# Altium integrated library FE310_Badge.IntLib: 55 symbols
Pins are listed as number, name and electrical type; pins without a type are passive.

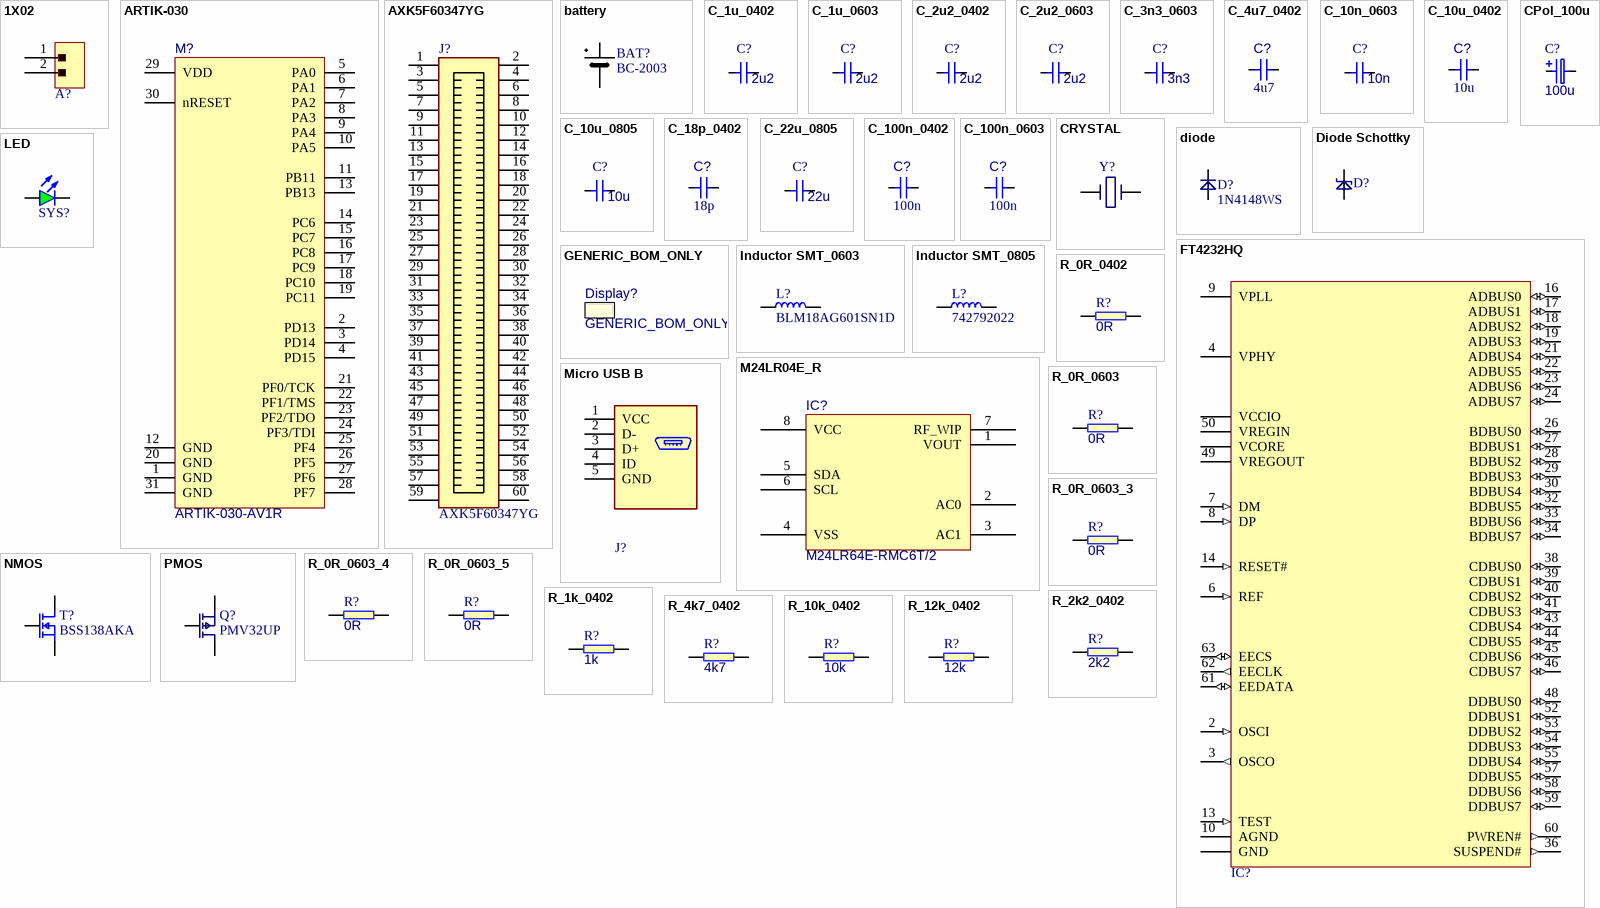
[diagram p0: symbols 1X02 to R_12k_0402]

## 1X02
designator A?, comment 811-22-002-30-001101  (value not drawn)
Headers & Wire Housings 2P SINGLE ROW HDR .177" PIN HEIGHT; Manufacturer: MILL_MAX; Part Number: 811-22-002-30-001101; Value: 811-22-002-30-001101; Part Symbol: 811-22-002-30-001101
footprint 812-22-002-30-003101
pins: 1, 2

## ARTIK-030
designator M?, comment ARTIK-030-AV1R
Manufacturer: Samsung; Part Number: ARTIK-030; Part Symbol: ARTIK-030-AV1R; Value: ARTIK-030-AV1R
footprint ARTIK-030
pins: 1 GND, 2 PD13, 3 PD14, 4 PD15, 5 PA0, 6 PA1, 7 PA2, 8 PA3, 9 PA4, 10 PA5, 11 PB11, 12 GND, 13 PB13, 14 PC6, 15 PC7, 16 PC8, 17 PC9, 18 PC10, 19 PC11, 20 GND, 21 PF0/TCK, 22 PF1/TMS, 23 PF2/TDO, 24 PF3/TDI, 25 PF4, 26 PF5, 27 PF6, 28 PF7, 29 VDD, 30 nRESET, 31 GND

## AXK5F60347YG
designator J?
CONN SCKT BRD/BRD .5MM 60POS SMD; Manufacturer: PANASONIC; Part Number: AXK5F60347YG; Value: AXK5F60347YG; Part Symbol: AXK5F60347YG
footprint AXK5F60347YG
pins: 1, 2, 3, 4, 5, 6, 7, 8, 9, 10, 11, 12, 13, 14, 15, 16, 17, 18, 19, 20, 21, 22, 23, 24, 25, 26, 27, 28, 29, 30, 31, 32, 33, 34, 35, 36, 37, 38, 39, 40, 41, 42, 43, 44, 45, 46, 47, 48, 49, 50, 51, 52, 53, 54, 55, 56, 57, 58, 59, 60

## battery
designator BAT?, comment BC-2003
SMT holder for  CR2032 battery; Manufacturer: Keystone; Part Number: BC-2003; Value: BC-2003; Part Symbol: BC-2003
footprint BC-2003
pins: +, -

## C_1u_0402
designator C?, comment 2u2
MLCC SMT Capacitor 1u 0402; Part Number: C_2u2_0603; Manufacturer: MURATA; Part Symbol: GRM155R61C105KA12D; Value: 2u2
footprint 0402
pins: 1, 2
1 alternate drawing of the same symbol

## C_1u_0603
designator C?, comment 2u2
MLCC SMT Capacitor 1u 0603; Part Number: C_2u2_0603; Manufacturer: MURATA; Part Symbol: GRM155R61C105KA12D; Value: 2u2
footprint 0603
pins: 1, 2
1 alternate drawing of the same symbol

## C_2u2_0402
designator C?, comment 2u2
MLCC SMT Capacitor 2u2 0402; Part Number: C_2u2_0402; Manufacturer: TDK; Part Symbol: C1005X5R1A225K050BC; Value: 2u2
footprint 0402
pins: 1, 2
1 alternate drawing of the same symbol

## C_2u2_0603
designator C?, comment 2u2
MLCC SMT Capacitor 2u2 0603; Part Number: C_2u2_0603; Manufacturer: TDK; Part Symbol: C1608X5R1V225K080AC; Value: 2u2
footprint 0603
pins: 1, 2
1 alternate drawing of the same symbol

## C_3n3_0603
designator C?, comment 3n3
MLCC SMT Capacitor 3n3 0603; Part Number: C_3n3_0603; Manufacturer: WALSIN; Part Symbol: 0603B332J500CT; Value: 3n3
footprint 0603
pins: 1, 2
1 alternate drawing of the same symbol

## C_4u7_0402
designator C?, comment 4u7
MLCC SMT Capacitor 4u7 0402; Part Number: C_4u7_0402; Manufacturer: MURATA; Part Symbol: GRM155R60G475ME; Value: 4u7
footprint 0402
pins: 1, 2
1 alternate drawing of the same symbol

## C_10n_0603
designator C?, comment 10n
MLCC SMT Capacitor 10n 0603; Part Number: C_10n_0603; Manufacturer: AVX; Part Symbol: 06031C103JAT2A; Value: 10n
footprint 0603
pins: 1, 2
1 alternate drawing of the same symbol

## C_10u_0402
designator C?, comment 10u
MLCC SMT Capacitor 10uF 0402; Part Number: C_10u_0402; Manufacturer: TDK; Part Symbol: C1005X5R0J106M050BC; Value: 10u
footprint 0402
pins: 1, 2
1 alternate drawing of the same symbol

## C_10u_0805
designator C?, comment 10u
MLCC SMT Capacitor 10u 0805; Part Number: C_10u_0805; Manufacturer: WALSIN; Part Symbol: 0805F106Z100CT; Value: 10u
footprint 0805
pins: 1, 2
1 alternate drawing of the same symbol

## C_18p_0402
designator C?, comment 18p
MLCC SMT Capacitor 18pF 0402; Part Number: C_18p_0402; Manufacturer: KEMET; Part Symbol: C0402C180J5GACAUTO; Value: 18p
footprint 0402
pins: 1, 2
1 alternate drawing of the same symbol

## C_22u_0805
designator C?, comment 22u
MLCC SMT Capacitor 22u 0805; Part Number: C_22u_0805; Manufacturer: MULTICOMP; Part Symbol: MC0805X226M6R3CT; Value: 22u
footprint 0805
pins: 1, 2
1 alternate drawing of the same symbol

## C_100n_0402
designator C?, comment 100n
MLCC SMT Capacitor 100nF 0402; Part Number: C_100n_0402; Manufacturer: MULTICOMP; Part Symbol: MC0402X104M100CT; Value: 100n
footprint 0402
pins: 1, 2
1 alternate drawing of the same symbol

## C_100n_0603
designator C?, comment 100n
MLCC SMT Capacitor 100nF 0603; Part Number: C_100n_0603; Manufacturer: WALSIN; Part Symbol: 0603B104K500CT; Value: 100n
footprint 0603
pins: 1, 2
1 alternate drawing of the same symbol

## CPol_100u
designator C?, comment 100u
Tantalum SMT Capacitor 100uF Case KEMET_A; Part Number: C_100u_KEMET_A; Manufacturer: VISHAY; Part Symbol: 298D107X06R3A2T; Value: 100u
footprint KEMET_A
pins: 1, 2
1 alternate drawing of the same symbol

## CRYSTAL
designator Y?, comment ABRACON - ABM7-12.000MHZ-D2Y-T - CRYSTAL, 12MHZ, 18PF, SMD  (value not drawn)
CRYSTAL, 12MHZ, 18PF, SMD; Part Number: CRYSTAL_12MHz_SMD_6.0x3.5mm; Manufacturer: ABRACON; Part Symbol: ABM7-12.000MHZ-D2Y-T
footprint abm7
pins: 1, 2

## diode
designator D?, comment 1N4148WS
Diode small signal; Manufacturer: MULTICOMP; Part Number: 1N4148WS; Value: 1N4148WS; Part Symbol: 1N4148WS
footprint SOD-323
pins: A, C

## Diode Schottky
designator D?
DIODE, SCHOTTKY, 1A, 40V, DO-214AA; Part Number: MBRS140T3G; Manufacturer: ON SEMICONDUCTOR; Part Symbol: MBRS140T3G
footprint SMB
pins: A, C

## FT4232HQ
designator IC?  (value not drawn)
FTDI  FT4232HQ-R  Interface Bridges, USB to UART, MPSSE, 1.62 V, 1.98 V, QFN, 64 Pins, -40 °C; Part Number: FT4232HQ; Value: FT4232HQ; Manufacturer: FTDI; Part Symbol: FT4232HQ-R
footprint FT2232HQ
pins: 2 OSCI (in), 3 OSCO (out), 4 VPHY (power), 6 REF (in), 7 DM (in), 8 DP (in), 9 VPLL (power), 10 AGND (power), 13 TEST (in), 14 RESET# (in), 16 ADBUS0 (io), 17 ADBUS1 (io), 18 ADBUS2 (io), 19 ADBUS3 (io), 21 ADBUS4 (io), 22 ADBUS5 (io), 23 ADBUS6 (io), 24 ADBUS7 (io), 26 BDBUS0 (io), 27 BDBUS1 (io), 28 BDBUS2 (io), 29 BDBUS3 (io), 30 BDBUS4 (io), 32 BDBUS5 (io), 33 BDBUS6 (io), 34 BDBUS7 (io), 36 SUSPEND# (out), 38 CDBUS0 (io), 39 CDBUS1 (io), 40 CDBUS2 (io), 41 CDBUS3 (io), 43 CDBUS4 (io), 44 CDBUS5 (io), 45 CDBUS6 (io), 46 CDBUS7 (io), 48 DDBUS0 (io), 49 VREGOUT (power), 50 VREGIN (power), 52 DDBUS1 (io), 53 DDBUS2 (io), 54 DDBUS3 (io), 55 DDBUS4 (io), 57 DDBUS5 (io), 58 DDBUS6 (io), 59 DDBUS7 (io), 60 PWREN# (out), 61 EEDATA (io), 62 EECLK (out), 63 EECS (io), GND (power), VCCIO (power), VCORE (power)

## GENERIC_BOM_ONLY
designator Display?  (mechanical)
BOM Only; Manufacturer: Pervasive Displays; Value: EG020BS011; Part Number: GENERIC_BOM_ONLY; Part Symbol: EG020BS011

## Inductor SMT_0603
designator L?, comment BLM18AG601SN1D
Ferrite Bead, 600 ohm, 0603 [1608 Metric], BLM18A Series, 500 mA, 0.38 ohm, ± 25%; Manufacturer: MURATA; Part Number: BLM18AG601SN1D; Value: BLM18AG601SN1D; Part Symbol: BLM18AG601SN1D
footprint 0603
pins: 1, 2

## Inductor SMT_0805
designator L?, comment 742792022
WURTH ELEKTRONIK - 742792022 - FERRITE BEAD, 0.05OHM, 2A, 0805; Part Number: 742792022; Value: 742792022; Manufacturer: WURTH ELEKTRONIK; Part Symbol: 742792022
footprint 0805
pins: 1, 2

## LED
designator SYS?, comment KPT-1608SGC  (value not drawn)
LED Green 0603 case; Part Number: LED_G; Manufacturer: KINGBRIGHT; Value: KPT-1608SGC; Part Symbol: KPT-1608SGC
footprint LED0603
pins: A, K

## M24LR04E_R
designator IC?, comment M24LR64E-RMC6T/2
RFID Transponder IC 13.56MHz ISO 14443, NFC I²C 2.7 V ~ 5.5 V 8-UFDFN Exposed Pad; Manufacturer: STMicroelectronics; Part Number: M24LR64E-RMC6T/2; Value: M24LR64E-RMC6T/2; Part Symbol: M24LR64E-RMC6T/2
footprint UFDFPN-8
pins: 1 VOUT, 2 AC0, 3 AC1, 4 VSS, 5 SDA, 6 SCL, 7 RF_WIP, 8 VCC

## Micro USB B
designator J?, comment Molex 47346-0001  (value not drawn)
USB - micro B Receptacle Connector 5 Position Surface Mount, Right Angle, Horizontal; Part Number: CON-Molex-47346-0001; Part Symbol: 473460001; Value: Molex 47346-0001; Manufacturer: Molex
footprint CON-Molex-047346-0001
pins: 1 VCC (power), 2 D-, 3 D+, 4 ID, 5 GND (power)

## NMOS
designator T?, comment BSS138AKA
MOSFET, N CH, 60V, 0.2A; Part Number: BSS138; Manufacturer: NXP; Value: BSS138AKA; Part Symbol: BSS138AKA
footprint SOT-23 (SOT23, 3-Leads, Body 2.90x2.45mm, Pitch 0.95mm, IPC Medium Density)
pins: 1 G, 2 S, 3 D

## PMOS
designator Q?, comment PMV32UP
P CH, 20V, 4A; Manufacturer: NXP; Part Number: PMV32UP; Value: PMV32UP; Part Symbol: PMV32UP
footprint SOT-23
pins: 1 G, 2 S, 3 D

## R_0R_0402
designator R?, comment 0R
RES, 0R, 0402; Part Number: R_0R_0402; Manufacturer: MULTICOMP; Part Symbol: MCMR04X000 PTL; Value: 0R
footprint 0402
pins: 1, 2

## R_0R_0603
designator R?, comment 0R
RES, 0R, 0603; Part Number: R_0R_0603; Manufacturer: BOURNS; Part Symbol: CR0603-J/-000ELF; Value: 0R
footprint 0603
pins: 1, 2

## R_0R_0603_3
designator R?, comment 0R
RES, 0R, 0603; Part Number: R_0R_0603; Manufacturer: BOURNS; Part Symbol: CR0603-J/-000ELF; Value: 0R
footprint 0603
pins: 1, 2

## R_0R_0603_4
designator R?, comment 0R
RES, 0R, 0603; Part Number: R_0R_0603; Manufacturer: BOURNS; Part Symbol: CR0603-J/-000ELF; Value: 0R
footprint 0603
pins: 1, 2

## R_0R_0603_5
designator R?, comment 0R
RES, 0R, 0603; Part Number: R_0R_0603; Manufacturer: BOURNS; Part Symbol: CR0603-J/-000ELF; Value: 0R
footprint 0603
pins: 1, 2

## R_1k_0402
designator R?, comment 1k
RES, 1k, 0402; Part Number: R_1k_0402; Manufacturer: MULTICOMP; Part Symbol: MCMR04X1001FTL; Value: 1k
footprint 0402
pins: 1, 2

## R_2k2_0402
designator R?, comment 2k2
RES, 2k2, 0402; Part Number: R_2k2_0402; Manufacturer: MULTICOMP; Part Symbol: MCWR04X2201FTL; Value: 2k2
footprint 0402
pins: 1, 2

## R_4k7_0402
designator R?, comment 4k7
RES, 4k7, 0402; Part Number: R_4k7_0402; Manufacturer: PANASONIC; Part Symbol: ERJ2GEJ472X; Value: 4k7
footprint 0402
pins: 1, 2

## R_10k_0402
designator R?, comment 10k
RES, 10k, 0402; Part Number: R_10k_0402; Manufacturer: MULTICOMP; Part Symbol: MCMR04X1002FTL; Value: 10k
footprint 0402
pins: 1, 2

## R_12k_0402
designator R?, comment 12k
RES, 12k 0402; Part Number: R_12k_0402; Manufacturer: VISHAY; Part Symbol: CRCW040212K0FKEDHP; Value: 12k
footprint 0402
pins: 1, 2

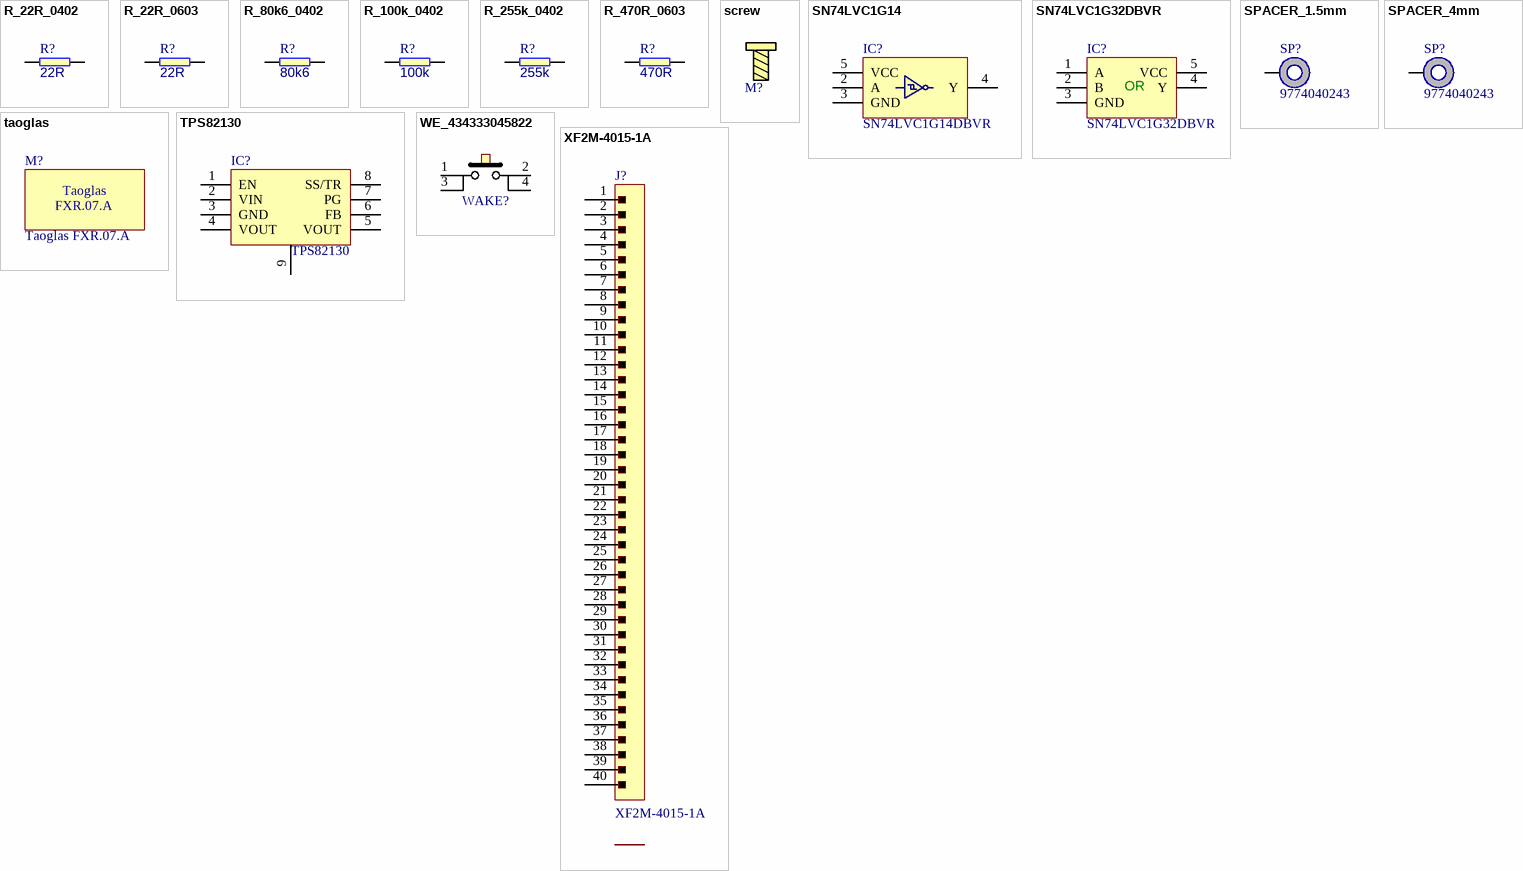
[diagram p1: symbols R_22R_0402 to XF2M-4015-1A]

## R_22R_0402
designator R?, comment 22R
RES, 22R, 0402; Part Number: R_22r_0402; Manufacturer: VISHAY; Part Symbol: CRCW040222R0FKED; Value: 22R
footprint 0402
pins: 1, 2

## R_22R_0603
designator R?, comment 22R
RES, 22R, 0603; Part Number: R_22R_0603; Manufacturer: BOURNS; Part Symbol: CR0603-JW-220GLF; Value: 22R
footprint 0603
pins: 1, 2

## R_80k6_0402
designator R?, comment 80k6
RES, 80k6, 0402; Part Number: R_80k6_0402; Manufacturer: PANASONIC; Part Symbol: ERJ2RKF8062X; Value: 80k6
footprint 0402
pins: 1, 2

## R_100k_0402
designator R?, comment 100k
RES, 100k 0402; Part Number: R_100k_0402; Manufacturer: VISHAY; Part Symbol: CRCW0402100KFKEDHP; Value: 100k
footprint 0402
pins: 1, 2

## R_255k_0402
designator R?, comment 255k
RES, 255k 0402; Part Number: R_255k_0402; Manufacturer: PANASONIC; Part Symbol: ERJ-2RKF2553X; Value: 255k
footprint 0402
pins: 1, 2

## R_470R_0603
designator R?, comment 470R
RES, 470R, 0603; Part Number: R_470R_0603; Manufacturer: BOURNS; Part Symbol: CR0603-JW-471GLF; Value: 470R
footprint 0603
pins: 1, 2

## screw
designator M?, comment M2x5  (value not drawn)  (mechanical)
MACHINE SCREW PAN PHILLIPS M2; Part Number: MPMS 002 0005 PH; Manufacturer: B&F Fastener Supply; Value: M2x5; Part Symbol: MPMS 002 0005 PH

## SN74LVC1G14
designator IC?, comment SN74LVC1G14DBVR
Inverter with schmitt trigger.; Manufacturer: TEXAS INSTRUMENTS; Part Number: SN74LVC1G14DBVR; Value: SN74LVC1G14DBVR; Part Symbol: SN74LVC1G14DBVR
footprint SOT23-5
pins: 2 A, 3 GND, 4 Y, 5 VCC

## SN74LVC1G32DBVR
designator IC?
Single 2-Input OR Gate; Manufacturer: TEXAS INSTRUMENTS; Part Number: SN74LVC1G32DBVR; Value: SN74LVC1G32DBVR; Part Symbol: SN74LVC1G32DBVR
footprint SOT23-5
pins: 1 A, 2 B, 3 GND, 4 Y, 5 VCC
text: OR

## SPACER_1.5mm
designator SP?, comment 9774040243  (mechanical)
M2x1.5; Part Number: WE_9774040243; Manufacturer: WURTH ELEKTRONIK; Part Symbol: 9774015243R; Value: 9774040243
footprint M2-1mm
pins: 1

## SPACER_4mm
designator SP?, comment 9774040243  (mechanical)
M2x4; Part Number: WE_9774040243; Manufacturer: WURTH ELEKTRONIK; Part Symbol: 9774040243R; Value: 9774040243
footprint M2-4mm
pins: 1

## taoglas
designator M?, comment Taoglas FXR.07.A  (mechanical)
ANT NFC FLEX CIRC 45.5X0.24MM; Manufacturer: TAOGLAS LIMITED; Part Number: taoglas; Value: Taoglas FXR.07.A; Part Symbol: FXR.07.A
text: Taoglas

## TPS82130
designator IC?
Voltage Regulators - Switching Regulators 3-A 17V Step-down Converter Module with Integrated Inductor 8-uSiP -40 to 125; Manufacturer: TEXAS INSTRUMENTS; Part Symbol: TPS82130SILR; Part Number: TPS82130; Value: TPS82130
footprint MicroSIP
pins: 1 EN, 2 VIN, 3 GND, 4 VOUT, 5 VOUT, 6 FB, 7 PG, 8 SS/TR, 9 GND

## WE_434333045822
designator WAKE?, comment 434333045822  (value not drawn)
3.5x4.7 mm SMD side push, boss design WS-TASU; Part Number: WE_434333045822; Manufacturer: WURTH ELEKTRONIK; Value: 434333045822; Part Symbol: 434333045822
footprint 434333045822
pins: 1, 2, 3, 4

## XF2M-4015-1A
designator J?
RECEPTACLE, FPC, ZIF, SMT, 0.5MM, 40WAY; Manufacturer: OMRON ELECTRONIC COMPONENTS; Part Symbol: XF2M40151A; Part Number: XF2M-4015-1A; Value: XF2M-4015-1A
footprint XF2M-4015-1A
pins: 1, 2, 3, 4, 5, 6, 7, 8, 9, 10, 11, 12, 13, 14, 15, 16, 17, 18, 19, 20, 21, 22, 23, 24, 25, 26, 27, 28, 29, 30, 31, 32, 33, 34, 35, 36, 37, 38, 39, 40